# Altium footprint library Footprints.PcbLib: 4 footprints
Each footprint in its own frame and in the unit in brackets; x right, y up, seen from the top. Pads: shape width x height; smd on the part's side, far side on the other; paste and mask are expansions set on the pad; w line width, h text height; cw(c..) or ccw(c..) is an arc to the next point about the centre after c.
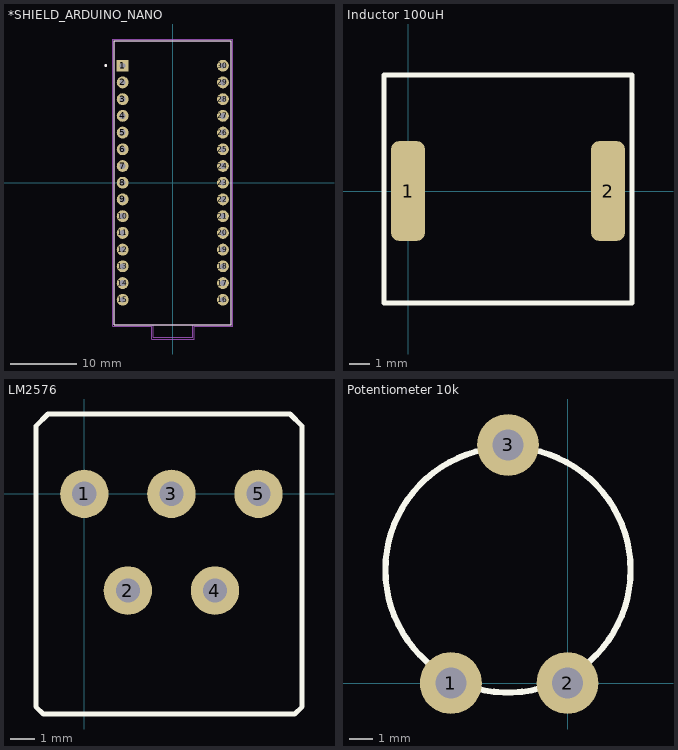
[diagram p0: the footprints below, top view; thin cyan lines are the x and y axes]

## *SHIELD_ARDUINO_NANO [mm]
pads (30):
  rect 1.8x1.8 hole 0.9: 1(-7.62,17.78)
  round 1.8 hole 0.9: 2(-7.62,15.24) 3(-7.62,12.7) 4(-7.62,10.16) 5(-7.62,7.62) 6(-7.62,5.08) 7(-7.62,2.54) 8(-7.62,0) 9(-7.62,-2.54) 10(-7.62,-5.08) 11(-7.62,-7.62) 12(-7.62,-10.16) 13(-7.62,-12.7) 14(-7.62,-15.24) 15(-7.62,-17.78) 16(7.62,-17.78) 17(7.62,-15.24) 18(7.62,-12.7) 19(7.62,-10.16) 20(7.62,-7.62) 21(7.62,-5.08) 22(7.62,-2.54) 23(7.62,0) 24(7.62,2.54) 25(7.62,5.08) 26(7.62,7.62) 27(7.62,10.16) 28(7.62,12.7) 29(7.62,15.24) 30(7.62,17.78)
Top Overlay:
  circle w0.2: c-10.2,17.8 r0.1
  lines w0.127: -8.89,-21.59 -8.89,21.59 8.89,21.59 8.89,-21.59 -8.89,-21.59
Mechanical 4:
  circle w0.2: c-10.2,17.8 r0.1
  circle w0.2: c-10.2,17.8 r0.1
  lines w0.127: -8.89,-21.59 -8.89,21.59 ; -8.89,-21.59 -2.97,-21.59 ; -8.89,-21.59 -8.89,21.59 ; -8.89,-21.59 -2.97,-21.59 ; -8.89,21.59 8.89,21.59 ; -8.89,21.59 8.89,21.59 ; -2.97,-23.495 3,-23.495 ; -2.97,-23.495 -2.97,-21.59 ; -2.97,-23.495 3,-23.495 ; -2.97,-23.495 -2.97,-21.59 ; -2.97,-21.59 3,-21.59 ; -2.97,-21.59 3,-21.59 ; 3,-23.495 3,-21.59 ; 3,-23.495 3,-21.59 ; 3,-21.59 8.89,-21.59 ; 3,-21.59 8.89,-21.59 ; 8.89,-21.59 8.89,21.59 ; 8.89,-21.59 8.89,21.59
Mechanical 16:
  lines w0.05: -9.14,-21.84 -3.22,-21.84 -3.22,-23.745 3.25,-23.745 3.25,-21.84 9.14,-21.84 9.14,21.84 -9.14,21.84 -9.14,-21.84
3D body: height 0.25, standoff 0, extent -9.2,21.8 -9.2,21.8
3D body: height 0.25, standoff 0, extent -9.2,21.8 -9.2,21.8
3D body "User Library-ARDUINO NANO.step": height 15.25, standoff -3.5, extent -8.925,-23.525 9.075,22.125

## Inductor 100uH [mm] "Inductor 100uH"
pads (2):
  rrect50% 1.7x5 smd: 1(0,0) 2(10,0)
Top Overlay:
  lines w0.254: -0.4,5.8 0,5.8 ; 0,5.8 11.2,5.8 11.2,-5.6 11,-5.6 -1.2,-5.6 -1.2,5.8 0,5.8
3D body "69730.stp": height 8.3, standoff 0.3, extent -1.25,-6.25 11.25,6.25

## LM2576 [mm]
height 8.7
pads (5):
  round 2 hole 1: 1(0,0) 2(1.8,-4) 3(3.6,0) 4(5.4,-4) 5(7.2,0)
Top Overlay:
  lines w0.2: -2,-8.8 -2,-5.625 -2,-0.675 -2,2.8 -1.5,3.3 -0.1,3.3 8.5,3.3 9,2.8 9,-8.8 8.7,-9.1 -1.7,-9.1 -2,-8.8
3D body: height 5, standoff 3.5, extent 6.9,-1.99 7.5,-1.49
3D body: height 5, standoff 3.5, extent 3.3,-1.96 3.9,-1.46
3D body: height 3.5, standoff 3, extent 6.9,-1.99 7.5,0.41
3D body: height 3.5, standoff 3, extent 3.3,-1.97 3.9,0.43
3D body: height 5, standoff 3.5, extent -0.3,-2 0.3,-1.5
3D body: height 3.5, standoff 3, extent -0.3,-2 0.3,0.4
3D body: height 5, standoff 0, extent 5.1,-4.4 5.7,-3.6
3D body: height 5, standoff 0, extent 1.5,-4.4 2.1,-3.6
3D body: height 3, standoff 0, extent 6.9,-0.4 7.5,0.4
3D body: height 3, standoff 0, extent -0.3,-0.4 0.3,0.4
3D body: height 0.25, standoff 0, extent 0,0 0,0
3D body: height 3, standoff 0, extent 3.3,-0.4 3.9,0.4
3D body: height 0.25, standoff 0, extent 4.6,-6.2 4.6,-6.2
3D body: height 0.25, standoff 0, extent 4.6,-6.2 4.6,-6.2
3D body: height 18, standoff 5, extent -2,-7.2 9,-6.8
3D body: height 0.25, standoff 0, extent 9,-8 9,-8
3D body: height 13.7, standoff 5, extent -1.9,-7.1 9.1,-0.9

## Potentiometer 10k [mm] "Potentiometer 10k"
pads (3):
  round 2.6 hole 1.3: 1(-4.9,0) 2(0,0) 3(-2.5,10)
Top Overlay:
  circle w0.254: c-2.5,4.75 r5.15
3D body "User Library-PT10MV.STEP": height 6.26, standoff -3.5, extent -7.65,-0.35 2.65,10.25